# EAGLE library part TPS61022RWUT (library TPS61022RWUT)
Switching Voltage Regulators 8-A boost converter with 0.5-V ultra-low input voltage 7-VQFN-HR -40 to 125 Source: Datasheet <http://www.ti.com/lit/ds/symlink/tps61022.pdf>
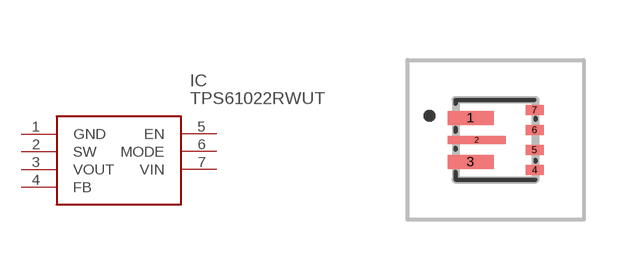
[diagram p0: symbol with the pads of TPS61022RWUT; footprint TPS61022RWUT]

Designator prefix IC

## TPS61022RWUT (Description: Switching Voltage Regulators 8-A boost converter with 0.5-V ultra-low input voltage 7-VQFN-HR -40 to 125; Height: 1mm; Manufacturer_Name: Texas Instruments; Manufacturer_Part_Number: TPS61022RWUT; Mouser_Part_Number: 595-TPS61022RWUT; Mouser_Price-Stock: https://www.mouser.co.uk/ProductDetail/Texas-Instruments/TPS61022RWUT?qs=vLWxofP3U2xU7G%2FuAQNIxA%3D%3D)  [TPS61022RWUT]
1  GND
2  SW
3  VOUT
4  FB
5  EN
6  MODE
7  VIN

## Footprint TPS61022RWUT (pad centres in mm)
TPS61022RWUT-2
smd 1.15 x 0.35: 1 -0.625,0.55; 3 -0.625,-0.55
smd 1.45 x 0.2: 2 -0.475,0
smd 0.45 x 0.25: 4 0.975,-0.75; 5 0.975,-0.25; 6 0.975,0.25; 7 0.975,0.75